# Altium schematic symbol library HexaPod - Other.SchLib: 2 symbols
Pins are listed as number, name and electrical type; pins without a type are passive.

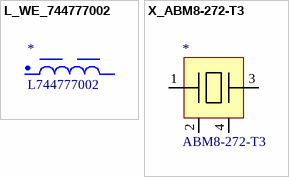
[diagram p0: symbols L_WE_744777002 to X_ABM8-272-T3]

## L_WE_744777002
designator *, comment L744777002
Spule 2,2uH 20% 6A 20mOhm; Part Number: L_WE_744777002; Manufacturer: Wurth Elektronik; Datasheet: https://www.we-online.com/components/products/datasheet/744777002.pdf; Manufacturer Part Number: 744777002; Operating Temperatur: -40°C - +120°C; Mouser: https://www.mouser.de/ProductDetail/Wurth-Elektronik/744777002?qs=sGAEpiMZZMv126LJFLh8y%252B7Zl4WEiWCP7UrAwWE4y3k%3D
footprint L744777002
pins: 1 29, 2 28

## X_ABM8-272-T3
designator *, comment ABM8-272-T3
Quarze 12MHz; Part Number: X_ABM8-272-T3; Manufacturer: ABRACON; Manufacturer Part Number: ABM8-272-T3 / ABM8-272-T3 / ABM8-272-T3; Datasheet: https://www.mouser.de/datasheet/2/3/ABM8_272_T3-3392615.pdf; Operating Temperatur: -40°C - +85°C; Mouser: https://www.mouser.de/ProductDetail/ABRACON/ABM8-272-T3?qs=QpmGXVUTftEj6miOiJBMxQ%3D%3D
footprint ABM8-272-T3
pins: 1 6, 2 7, 3 8, 4 9